# Altium schematic symbol library IND,100uH,2.5A,Wirewound,SMD.Schlib: 1 symbol
Pins are listed as number, name and electrical type; pins without a type are passive.

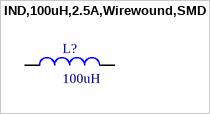
[diagram p0: symbol IND,100uH,2.5A,Wirewound,SMD]

## IND,100uH,2.5A,Wirewound,SMD
designator L?, comment 100uH
FIXED IND 100UH 2.5A 110 MOHM
pins: 1, 2